# Altium footprint library HVPSlibrary.PcbLib: 149 footprints (part 1 of 11)
Each footprint in its own frame and in the unit in brackets; x right, y up, seen from the top. Pads: shape width x height; smd on the part's side, far side on the other; paste and mask are expansions set on the pad; w line width, h text height; cw(c..) or ccw(c..) is an arc to the next point about the centre after c.
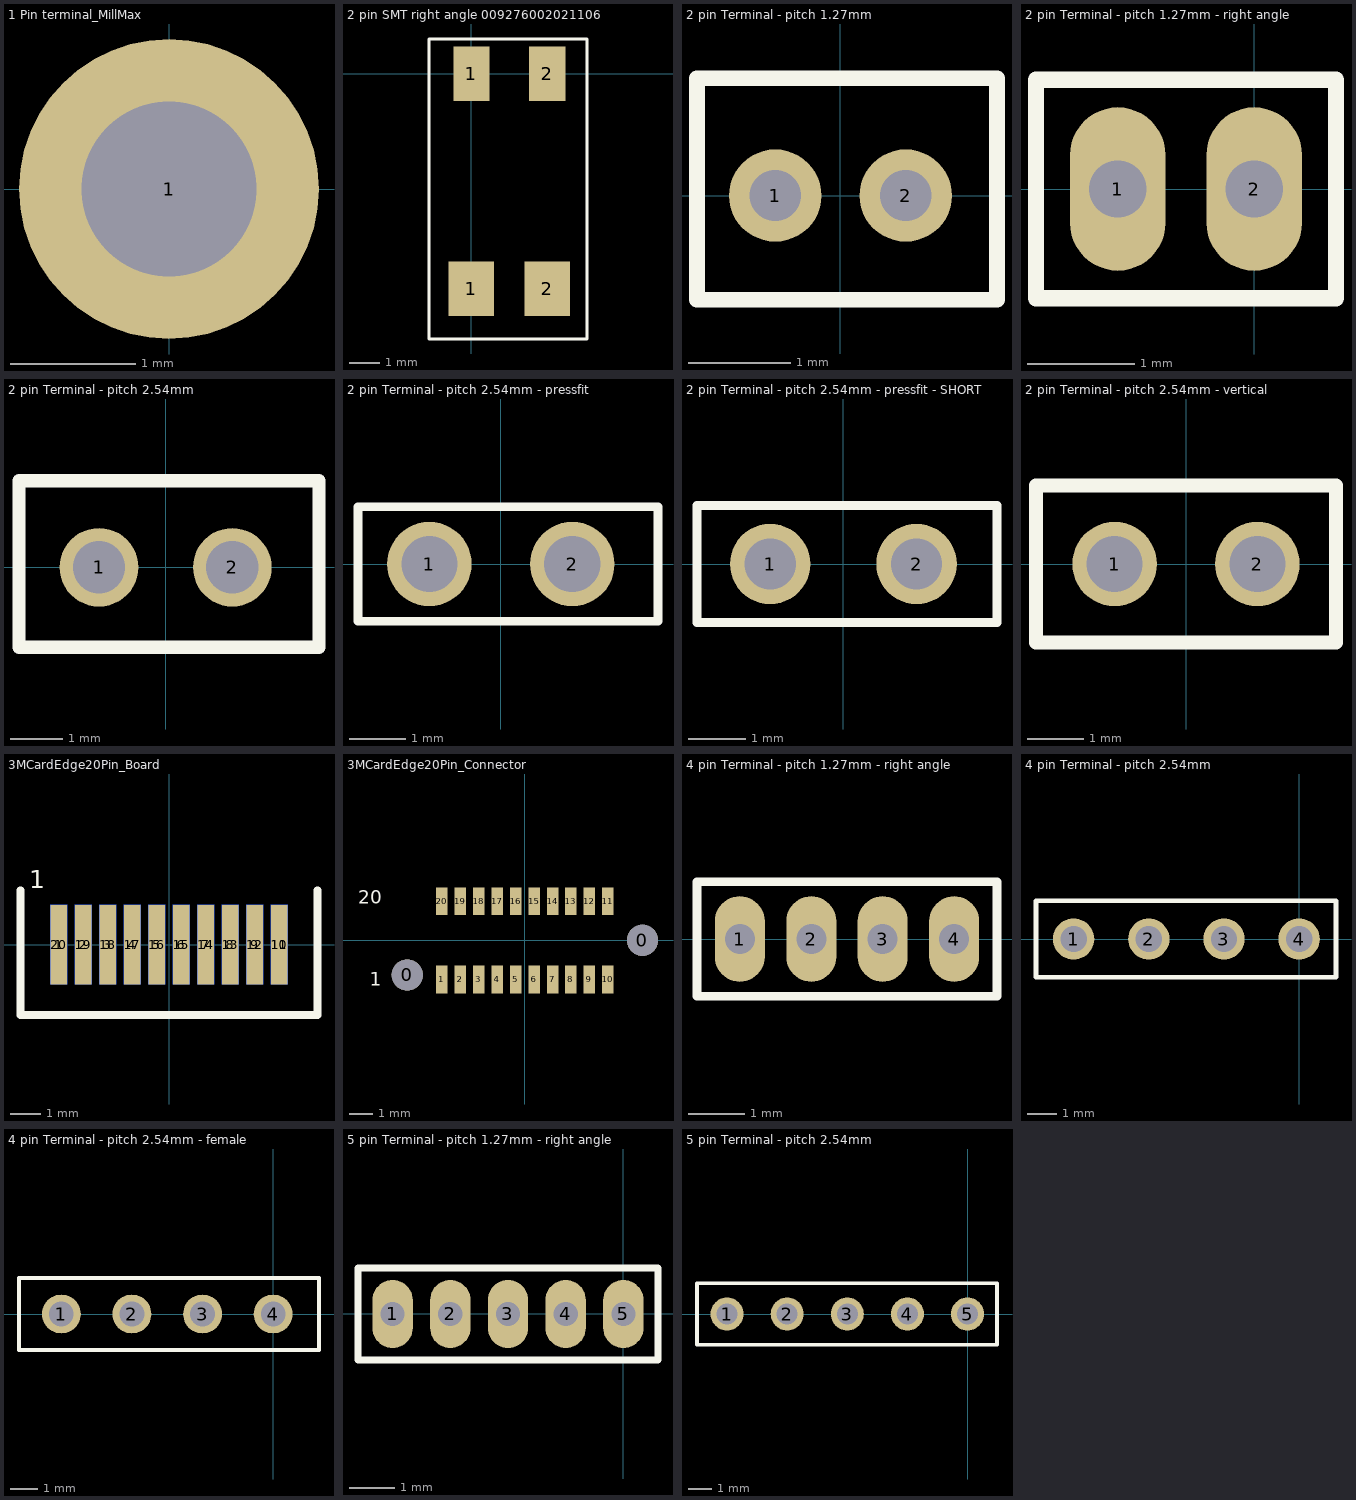
[diagram p0: the footprints below, top view; thin cyan lines are the x and y axes]

## 1 Pin terminal_MillMax [mm]
pads (1):
  round 2.4 hole 1.4: 1(0,0)
3D body "mill-max-801-93-001-61-001000.step": height 7, standoff -2.6, extent -1.321,-1.27 1.219,1.27

## 2 pin SMT right angle 009276002021106 [mm]
pads (4):
  rect 1.5x1.8 smd: 1(0,-7.1) 2(2.5,-7.1)
  rect 1.2x1.8 smd: 1(0,0) 2(2.5,0)
Top Overlay:
  lines w0.1: 3.025,1.143 3.81,1.143 3.81,-8.763 -1.397,-8.763 -1.397,1.143 3.175,1.143
3D body "AVX Interconnect-00-9276-002-021-906.STEP": height 5, standoff -0.1, extent -1.27,-8.31 3.73,0.69

## 2 pin Terminal - pitch 1.27mm [mm]
height 10
pads (2):
  round 0.9 hole 0.5: 1(-0.635,0) 2(0.635,0)
Top Overlay:
  lines w0.152: -1.397,-1.016 1.524,-1.016 1.524,1.143 -1.397,1.143 -1.397,-1.016
3D body "pcb_connector_850-80-002-10-001101.stp": height 5.2, standoff -2.9, extent -1.426,-1.016 1.524,1.184

## 2 pin Terminal - pitch 1.27mm - right angle [mil] "Right angle, male pin"
pads (2):
  oval 35x60 hole 21: 1(-50,0) 2(0,0)
Top Overlay:
  lines w6: -80,-40 -80,40 30,40 30,-40 -80,-40
3D body "pcb_connector_851-87-002-10-001101.stp": height 102.36, standoff 15.75, extent -83.07,70 33.07,321.97
3D body "_ _ _B021VWCN-RC.STEP": height 91.73, standoff -90.75, extent -75,-7.44 25,187.44

## 2 pin Terminal - pitch 2.54mm [mm]
height 10
pads (2):
  round 1.5 hole 1: 1(-1.27,0) 2(1.27,0)
Top Overlay:
  lines w0.254: -2.794,-1.524 -2.794,1.651 2.921,1.651 2.921,-1.524 -2.794,-1.524
3D body "3M connector - 961102-5604-XX.stp": height 4.22, standoff -6.1, extent -2.54,-1.27 2.54,4.53

## 2 pin Terminal - pitch 2.54mm - pressfit [mm]
height 10
pads (2):
  round 1.5 hole 1: 1(-1.27,0) 2(1.27,0)
Top Overlay:
  lines w0.152: -2.54,-1.016 -2.54,1.016 2.794,1.016 2.794,-1.016 -2.54,-1.016
3D body "mill-max-801-93-002-20-001000.step": height 1.8, standoff -3.89, extent -2.413,-0.372 2.667,8.246

## 2 pin Terminal - pitch 2.54mm - pressfit - SHORT [mil]
height 393.7
pads (2):
  round 55 hole 35: 1(-50,0) 2(50,0)
Top Overlay:
  lines w6: -100,-40 105,-40 105,40 -100,40 -100,-40
3D body "mill-max-399-13-102-10-003000.step": height 100, standoff -125.88, extent -100,-14.44 100,214.44

## 2 pin Terminal - pitch 2.54mm - vertical [mm]
height 10
pads (2):
  round 1.5 hole 1: 1(-1.27,0) 2(1.27,0)
Top Overlay:
  lines w0.254: -2.667,-1.397 2.667,-1.397 2.667,1.397 -2.667,1.397 -2.667,-1.397
3D body "Molex-2pin-901200122.stp": height 9.25, standoff -2.87, extent -2.54,-1.25 2.54,1.25

## 3D model for Lipo Battery [mm] "Nano Tech 130mAh"
3D body "battery.STEP": height 7, standoff 0, extent -11.935,-0.069 0.065,38.931

## 3MCardEdge20Pin_Board [mm] "SPD08-020-RB-TR"
pads (20):
  rect 0.55x2.6 smd: 1(-3.6,0) 2(-2.8,0) 3(-2,0) 4(-1.2,0) 5(-0.4,0) 6(0.4,0) 7(1.2,0) 8(2,0) 9(2.8,0) 10(3.6,0)
  rect 0.55x2.6 smd far side: 11(3.6,0) 12(2.8,0) 13(2,0) 14(1.2,0) 15(0.4,0) 16(-0.4,0) 17(-1.2,0) 18(-2,0) 19(-2.8,0) 20(-3.6,0)
Top Overlay:
  lines w0.254: -4.85,1.778 -4.85,-2.3 4.85,-2.3 4.85,1.778
  text "1" at -4.572,1.651 h1.02
Bottom Overlay:
  lines w0.254: -4.826,-2.3 -4.826,1.778 ; -4.826,-2.286 4.826,-2.286 4.826,1.792
  text "20" at -4.572,1.651 h1.02
3D body "SPD08-020-XX-XX_STEP.stp": height 3.5, standoff -3.5, extent -6.427,-4.982 6.173,4.318

## 3MCardEdge20Pin_Connector [mm] "SPD08-020-RB-TR"
pads (22):
  round 1.35 hole 1.35 paste+0 mask+0: 0(-5.1,-1.5) 0(5.1,0)
  rect 0.5x1.2 smd: 1(-3.6,-1.7) 2(-2.8,-1.7) 3(-2,-1.7) 4(-1.2,-1.7) 5(-0.4,-1.7) 6(0.4,-1.7) 7(1.2,-1.7) 8(2,-1.7) 9(2.8,-1.7) 10(3.6,-1.7) 11(3.6,1.7) 12(2.8,1.7) 13(2,1.7) 14(1.2,1.7) 15(0.4,1.7) 16(-0.4,1.7) 17(-1.2,1.7) 18(-2,1.7) 19(-2.8,1.7) 20(-3.6,1.7)
Top Overlay:
  text "1" at -6.731,-2.159 h1.02
  text "20" at -7.239,1.397 h1.02
3D body "SPD08-020-XX-XX_STEP.stp": height 8, standoff -1.3, extent -6.3,-3.5 6.3,3.5

## 4 pin Terminal - pitch 1.27mm - right angle [mil] "Right angle, male pin"
pads (4):
  oval 35x60 hole 21: 1(-250,0) 2(-200,0) 3(-150,0) 4(-100,0)
Top Overlay:
  lines w6: -280,-40 -70,-40 -70,40 -280,40 -280,-40
3D body "_ _ _B041NFFN-RC.STEP": height 94.49, standoff 7.87, extent -280.75,70 -65,365.28
3D body "_ _ _B041VWCN-RC.STEP": height 91.73, standoff -90.75, extent -275,-7.44 -75,187.44

## 4 pin Terminal - pitch 2.54mm [mil]
pads (4):
  round 55 / inner round 60 / far side round 55 hole 35: 1(-300,0) 2(-200,0) 3(-100,0) 4(0,0)
Top Overlay:
  lines w6: -350,-51 -350,51 49,51 49,-51 -350,-51
3D body "c-3-644456-4-j-3d.stp": height 395, standoff -110, extent -344.1,-45 44.1,47

## 4 pin Terminal - pitch 2.54mm - female [mil]
pads (4):
  round 55 / inner round 60 / far side round 55 hole 35: 1(-300,0) 2(-200,0) 3(-100,0) 4(0,0)
Top Overlay:
  lines w6: -360,-51 -360,51 65,51 65,-51 -360,-51
3D body "_ _ _C041LFBN-RC.STEP": height 334.65, standoff -125.98, extent -359.69,-50 60,50

## 5 pin Terminal - pitch 1.27mm - right angle [mil] "Right angle, male pin"
pads (5):
  oval 35x59.06 hole 21: 1(-200,0) 2(-150,0) 3(-100,0) 4(-50,0) 5(0,0)
Top Overlay:
  lines w6: -230,-40 -230,40 30,40 30,-40 -230,-40
3D body "_ _ _B061VWCN-RC.STEP": height 91.73, standoff -90.75, extent -275,-7.44 25,187.44

## 5 pin Terminal - pitch 2.54mm [mil]
pads (5):
  round 55 / inner round 60 / far side round 55 hole 35: 1(-400,0) 2(-300,0) 3(-200,0) 4(-100,0) 5(0,0)
Top Overlay:
  lines w6: -450,-51 -450,51 49,51 49,-51 -450,-51
3D body "c-3-644456-5-j-3d.stp": height 395, standoff -110, extent -444.09,-45.99 44.1,46.01